# Altium schematic symbol library Voltage Regulator_Linear.Schlib: 1 symbol
Pins are listed as number, name and electrical type; pins without a type are passive.

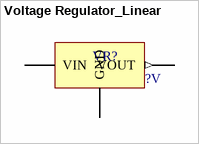
[diagram p0: symbol Voltage Regulator_Linear]

## Voltage Regulator_Linear
designator VR?  Output Voltage: ?V  (hidden comment: *)
footprint TO220-123
pins: 1 VIN (power), 2 GND (power), 3 VOUT (out)